# EAGLE library part _C2H_RFM95 (library Mini-Lora_v2_2)
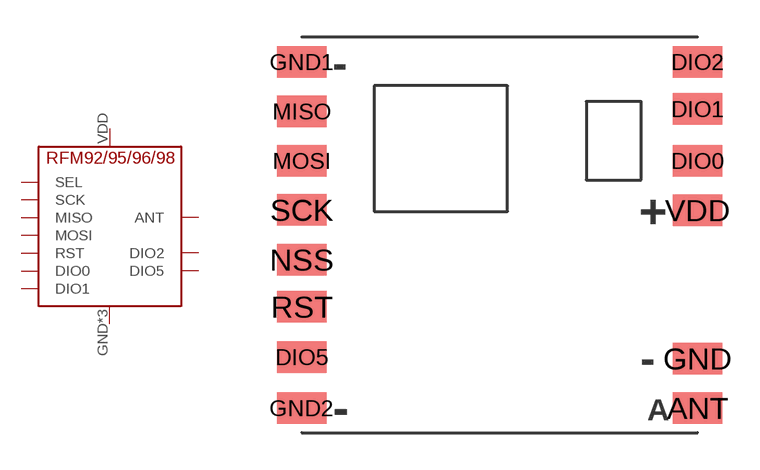
[diagram p4: symbol with the pads of _C2H_RFM95; footprint _C2H_RFM95]

Designator prefix -

## _C2H_RFM95  [_C2H_RFM95]
ANT  ANT  pas
DIO0  DIO0  oc
DIO1  DIO1  oc
DIO2  DIO2  oc
DIO5  DIO5  oc
GND  GND  pwr
GND1  GND  pwr
GND2  GND  pwr
MISO  MISO  in
MOSI  MOSI  out
NSS  SEL  in
RST  RST  oc
SCK  SCK  in
VDD  VCC  pwr

## Footprint _C2H_RFM95 (pad centres in mm)
smd 2 x 1.27: ANT 5.777,-7; DIO0 5.777,3; DIO1 5.779,5.095; DIO2 5.779,7; DIO5 -10.225,-4.936; GND 5.777,-5; GND1 -10.223,7; GND2 -10.23,-7; MISO -10.23,5; MOSI -10.225,3; NSS -10.223,-1; RST -10.223,-2.905; SCK -10.23,1.012; VDD 5.777,1